# EAGLE library part MCP2200 (library microchip-update)
USB 2.0 to UART Protocol Converter with GPIO
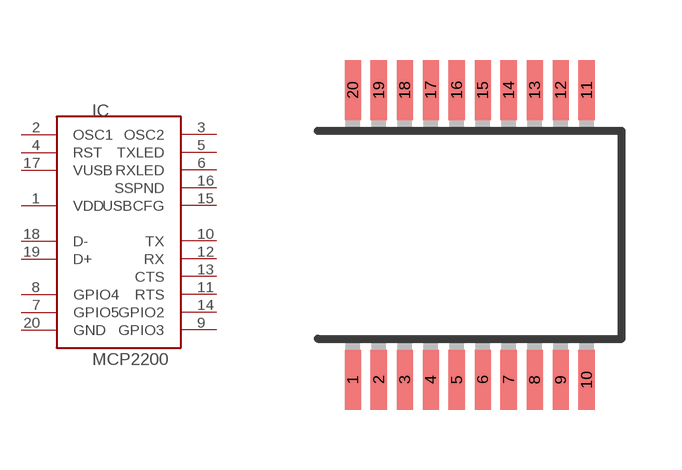
[diagram p136: symbol with the pads of SSOP20; footprint SSOP20]

Designator prefix IC

## MCP2200  [SSOP20]
1  VDD
2  OSC1
3  OSC2
4  RST
5  TXLED
6  RXLED
7  GPIO5
8  GPIO4
9  GPIO3
10  TX
11  RTS
12  RX
13  CTS
14  GPIO2
15  USBCFG
16  SSPND
17  VUSB
18  D-
19  D+
20  GND

## Footprint SSOP20 (pad centres in mm)
Shrink Small Outline Package package type SS
smd 0.4 x 1.5: 1 -2.925,-3.625; 2 -2.275,-3.625; 3 -1.625,-3.625; 4 -0.975,-3.625; 5 -0.325,-3.625; 6 0.325,-3.625; 7 0.975,-3.625; 8 1.625,-3.625; 9 2.275,-3.625; 10 2.925,-3.625; 11 2.925,3.625; 12 2.275,3.625; 13 1.625,3.625; 14 0.975,3.625; 15 0.325,3.625; 16 -0.325,3.625; 17 -0.975,3.625; 18 -1.625,3.625; 19 -2.275,3.625; 20 -2.925,3.625